# Altium footprint library PCB - CONNECTOR - GCT - GCT SIM8060-6-1-14-00-A.PcbLib: 1 footprints
Each footprint in its own frame and in the unit in brackets; x right, y up, seen from the top. Pads: shape width x height; smd on the part's side, far side on the other; paste and mask are expansions set on the pad; w line width, h text height; cw(c..) or ccw(c..) is an arc to the next point about the centre after c.
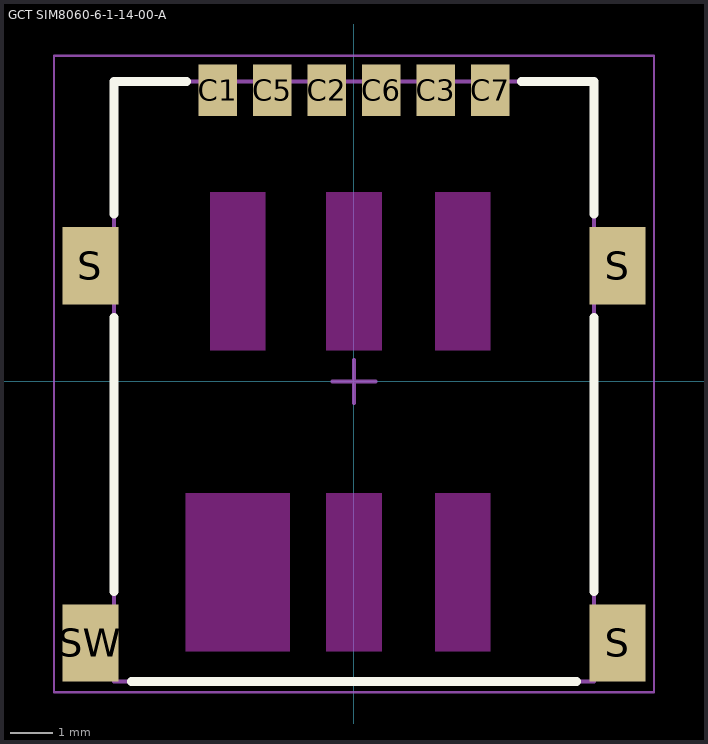
[diagram p0: the footprint, top view; thin cyan lines are the x and y axes]

## GCT SIM8060-6-1-14-00-A [mm] "6 Position Card Connector NANO SIM Surface Mount, Right Angle Gold"
height 1.43
pads (10):
  rect 0.9x1.2 smd: C1(-3.175,6.8) C2(-0.635,6.8) C3(1.905,6.8) C5(-1.905,6.8) C6(0.635,6.8) C7(3.175,6.8)
  rect 1.3x1.8 smd: S(-6.15,2.7) S(6.15,-6.1) S(6.15,2.7) SW(-6.15,-6.1)
Top Layer keep-out:
  rectangle: -3.93,-6.3 -1.49,-2.6
  rectangle: -0.65,-6.3 0.65,-2.6
  rectangle: 1.89,-6.3 3.19,-2.6
  rectangle: 1.89,0.72 3.19,4.42
  rectangle: -0.65,0.72 0.65,4.42
  rectangle: -3.36,0.72 -2.06,4.42
Top Overlay:
  lines w0.2: -5.6,-4.9 -5.6,1.5 ; -5.6,3.9 -5.6,7 -3.9,7 ; -5.2,-7 5.2,-7 ; 3.9,7 5.6,7 5.6,3.9 ; 5.6,-4.9 5.6,1.5
Mechanical 13:
  lines w0.1: -5.6,-7 -5.6,7 5.6,7 5.6,-7 -5.6,-7
Mechanical 15 (Mech15):
  lines w0.05: -7,-7.25 7,-7.25 7,7.6 -7,7.6 -7,-7.25
  lines w0.1: -0.5,0 0.5,0 ; 0,-0.5 0,0.5
3D body "GCT - SIM8060-6-0-14-00-A.step": height 1.4, standoff -0.03, extent -6.2,-7 6.2,7.1